# Altium schematic symbol library SchlibLafe.SchLib: 395 symbols (part 4 of 4)
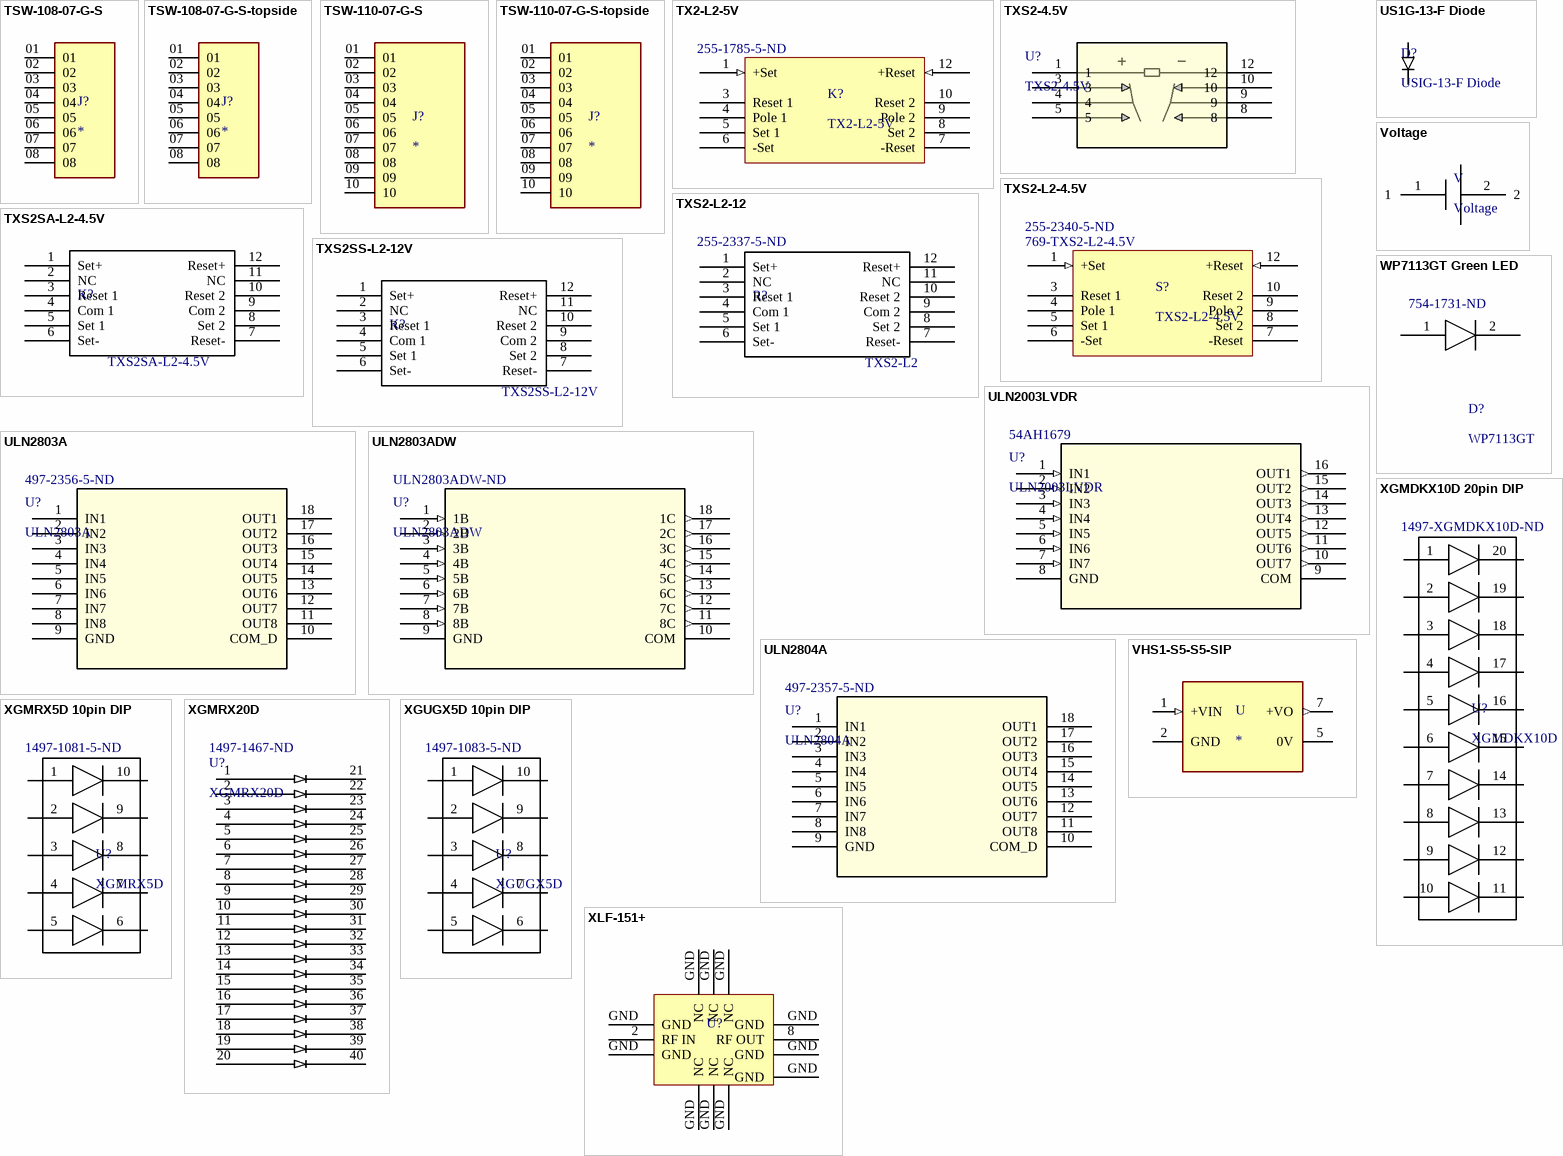
[diagram p15: symbols TSW-108-07-G-S to XLF-151+]

## XGUGX5D 10pin DIP
designator U?, comment XGUGX5D  Supplier Part Number 1: 1497-1083-5-ND
5 segment green bar LED; Supplier 1: Digi-Key
footprint DIP-10 2.5mm pitch (DIP10 2.5mm pitch)
pins: 1, 2, 3, 4, 5, 6, 7, 8, 9, 10

## XLF-151+
designator U?
280MHz (Cutoff) Frequency Low Pass RF Filter (Radio Frequency) Bandwidth 1.8dB 12-VQFN Exposed Pad; Supplier 1: Digi-Key; Supplier Part Number 1: 3157-XLF-151+CT-ND
footprint XLF-151+
pins: 2 RF IN, 8 RF OUT, GND, GND, GND NC, GND NC, GND NC, GND, GND, GND NC, GND NC, GND NC, GND